# Altium schematic symbol library 2K2 Resistor 5_ 0805.SchLib: 1 symbol
Pins are listed as number, name and electrical type; pins without a type are passive.

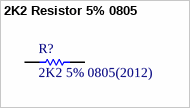
[diagram p0: symbol 2K2 Resistor 5% 0805]

## 2K2 Resistor 5% 0805
designator R?, comment 2K2 5% 0805(2012)
2K2 0.125W 5% 0805 (2012 Metric)  SMD; Case-EIA: 0805; Case-Metric: 2012; Value: 2200.00 Ohm; Power: 0.125 W; Tolerance: 5 %; Technology: SMT
footprint RESC0805(2012)_N (Chip Resistor, Body 2.0x1.3mm, IPC Medium Density)
footprint RESC0805(2012)_L (Chip Resistor, Body 2.0x1.3mm, IPC High Density)
footprint RESC0805(2012)_M (Chip Resistor, Body 2.0x1.3mm, IPC Low Density)
pins: 1, 2
1 alternate drawing of the same symbol